# EAGLE library part MX23A34NF1 (library MX23A34NF1)
Compact automotive Connector, Low profil, Double fin structure, 040 contacts, waterproof, board-to-cable application, 26 pos., Right angle Pin header Source: Datasheet <https://www.jae.com/direct/topics/topics_file_download/topics_id=64766&ext_no=06&_lang=en&v=>
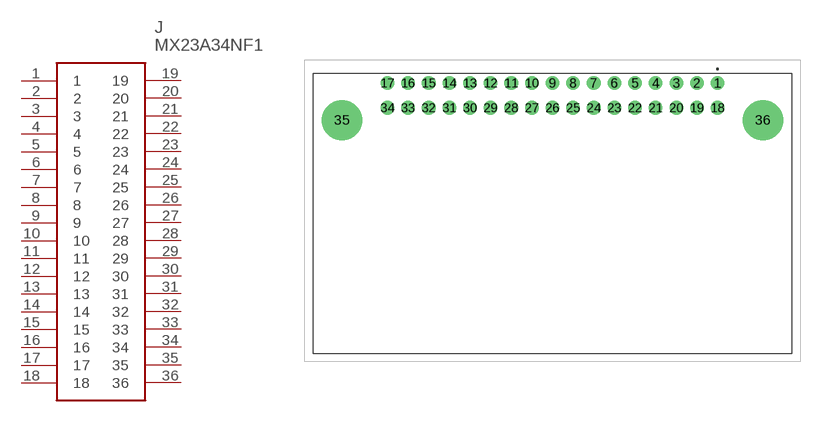
[diagram p0: symbol with the pads of MX23A34NF1; footprint MX23A34NF1]

Designator prefix J

## MX23A34NF1 (Description: Compact automotive Connector, Low profil, Double fin structure, 040 contacts, waterproof, board-to-cable application, 26 pos., Right angle Pin header; Height: 19mm; Manufacturer_Name: JAE; Manufacturer_Part_Number: MX23A34NF1; Mouser_Part_Number: 656-MX23A34NF1; Mouser_Price-Stock: https://www.mouser.co.uk/ProductDetail/JAE-Electronics/MX23A34NF1?qs=6xtm2vwqiW%252BG%252B9dcYpsrBg%3D%3D)  [MX23A34NF1]
1  1
2  2
3  3
4  4
5  5
6  6
7  7
8  8
9  9
10  10
11  11
12  12
13  13
14  14
15  15
16  16
17  17
18  18
19  19
20  20
21  21
22  22
23  23
24  24
25  25
26  26
27  27
28  28
29  29
30  30
31  31
32  32
33  33
34  34
35  35
36  36

## Footprint MX23A34NF1 (pad centres in mm)
MX23A34NF1
drill 1.1 pad 1.65: 1 20,15.5; 2 17.5,15.5; 3 15,15.5; 4 12.5,15.5; 5 10,15.5; 6 7.5,15.5; 7 5,15.5; 8 2.5,15.5; 9 0,15.5; 10 -2.5,15.5; 11 -5,15.5; 12 -7.5,15.5; 13 -10,15.5; 14 -12.5,15.5; 15 -15,15.5; 16 -17.5,15.5; 17 -20,15.5; 18 20,12.5; 19 17.5,12.5; 20 15,12.5; 21 12.5,12.5; 22 10,12.5; 23 7.5,12.5; 24 5,12.5; 25 2.5,12.5; 26 0,12.5; 27 -2.5,12.5; 28 -5,12.5; 29 -7.5,12.5; 30 -10,12.5; 31 -12.5,12.5; 32 -15,12.5; 33 -17.5,12.5; 34 -20,12.5
drill 3.25 pad 4.875: 35 -25.5,11; 36 25.5,11